# Altium footprint library 旋转编码开关.PcbLib: 3 footprints
Each footprint in its own frame and in the unit in brackets; x right, y up, seen from the top. Pads: shape width x height; smd on the part's side, far side on the other; paste and mask are expansions set on the pad; w line width, h text height; cw(c..) or ccw(c..) is an arc to the next point about the centre after c.
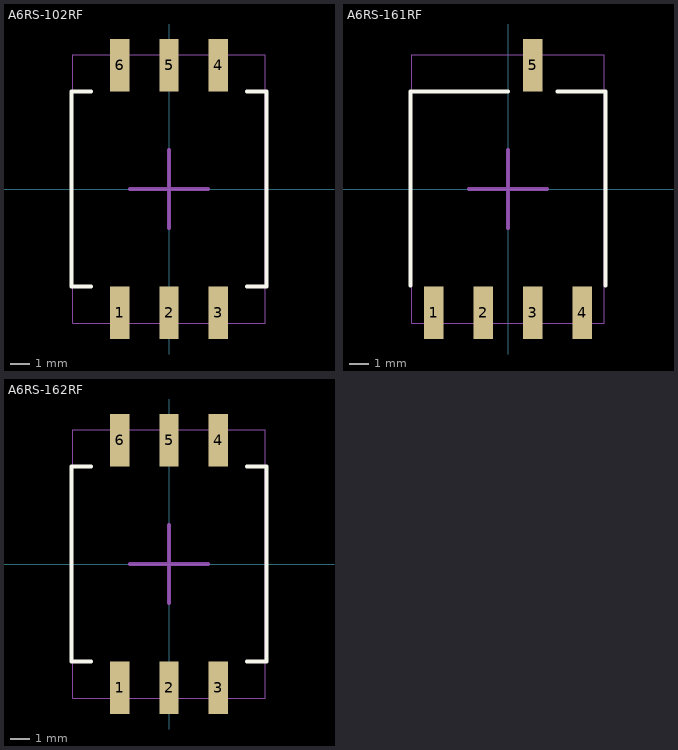
[diagram p0: the footprints below, top view; thin cyan lines are the x and y axes]

## A6RS-102RF [mm] "旋转编码开关"
height 4.5
pads (6):
  rect 1x2.7 smd: 1(-2.54,-6.35) 2(0,-6.35) 3(2.54,-6.35) 4(2.54,6.35) 5(0,6.35) 6(-2.54,6.35)
Top Overlay:
  lines w0.2: -5,-5 -4,-5 ; -5,-4.957 -5,5 -4,5 ; 4,-5 5,-5 ; 4,5 5,5 5,-4.957
Mechanical 13:
  lines w0.05: -4.95,-6.9 4.95,-6.9 4.95,6.9 -4.95,6.9 -4.95,-6.9
Mechanical 15:
  lines w0.2: -2,0 2,0 ; 0,-2 0,2
3D body: height 4.45, standoff -0.05, extent -4.95,-6.9 4.95,6.9

## A6RS-161RF [mm] "旋转编码开关"
height 4.5
pads (5):
  rect 1x2.7 smd: 1(-3.81,-6.35) 2(-1.27,-6.35) 3(1.27,-6.35) 4(3.81,-6.35) 5(1.27,6.35)
Top Overlay:
  lines w0.2: -5,-4.957 -5,5 0,5 ; 2.54,5 5,5 5,-4.957
Mechanical 13:
  lines w0.05: -4.95,-6.9 4.95,-6.9 4.95,6.9 -4.95,6.9 -4.95,-6.9
Mechanical 15:
  lines w0.2: -2,0 2,0 ; 0,-2 0,2
3D body: height 4.45, standoff -0.05, extent -4.95,-6.9 4.95,6.9

## A6RS-162RF [mm] "旋转编码开关"
height 4.5
pads (6):
  rect 1x2.7 smd: 1(-2.54,-6.35) 2(0,-6.35) 3(2.54,-6.35) 4(2.54,6.35) 5(0,6.35) 6(-2.54,6.35)
Top Overlay:
  lines w0.2: -5,-5 -4,-5 ; -5,-4.957 -5,5 -4,5 ; 4,-5 5,-5 ; 4,5 5,5 5,-4.957
Mechanical 13:
  lines w0.05: -4.95,-6.9 -4.95,6.9 4.95,6.9 4.95,-6.9 -4.95,-6.9
Mechanical 15:
  lines w0.2: -2,0 2,0 ; 0,-2 0,2
3D body: height 4.45, standoff -0.05, extent -4.95,-6.9 4.95,6.9